# Altium schematic symbol library Led Green 0603.Schlib: 1 symbol
Pins are listed as number, name and electrical type; pins without a type are passive.

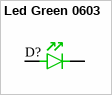
[diagram p0: symbol Led Green 0603]

## Led Green 0603
designator D?, comment Led Green  (value not drawn)
LIGHT EMITTING DIODES (LED) GREEN 520~535NM 112~258MCD@20MA TOP VIEW 0603 ROHS; LCSC Part #: C72043
footprint CH0603LG (Chip Diode, 2-Leads, Body 1.60x0.80mm, IPC Medium Density)
pins: 1, 2